# EAGLE library part 2MM-RA-1X6 (library J-precidip-831-2mm-RA)
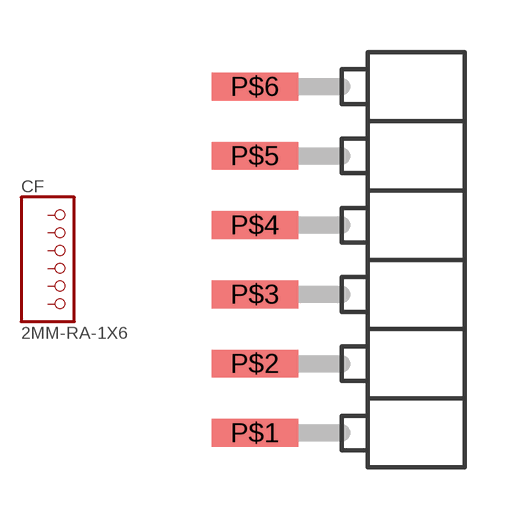
[diagram p0: symbol with the pads of PRECIDIP-831-87-050-40-001101; footprint PRECIDIP-831-87-050-40-001101]

Designator prefix CF

## 2MM-RA-1X6  [PRECIDIP-831-87-050-40-001101]
P$1  1  pas
P$2  2  pas
P$3  3  pas
P$4  4  pas
P$5  5  pas
P$6  6  pas

## Footprint PRECIDIP-831-87-050-40-001101 (pad centres in mm)
smd 2.5 x 0.8: P$1 -3.25,-5; P$2 -3.25,-3; P$3 -3.25,-1; P$4 -3.25,1; P$5 -3.25,3; P$6 -3.25,5